# Altium schematic symbol library IC_STMicroelectronics_STM8S105C6T6_eec.SchLib: 1 symbol
Pins are listed as number, name and electrical type; pins without a type are passive.

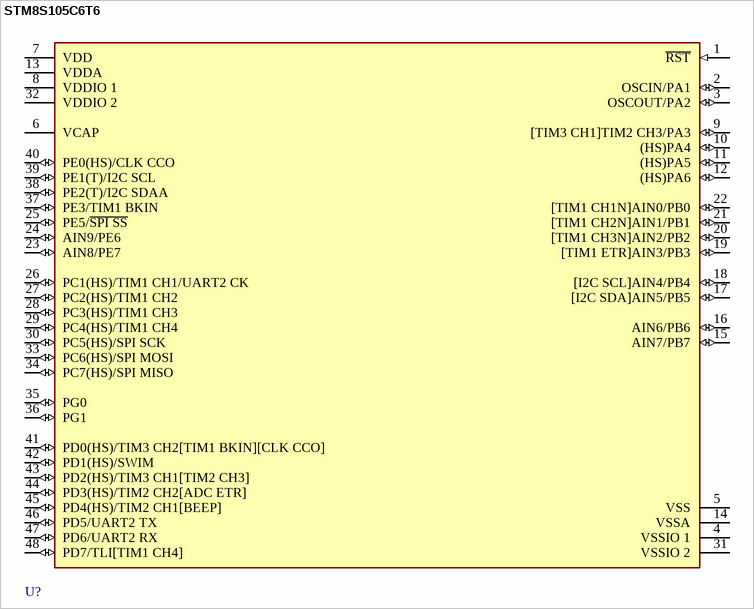
[diagram p0: symbol STM8S105C6T6]

## STM8S105C6T6
designator U?  (value not drawn)
pins: 1 ~{RST} (in), 2 OSCIN/PA1 (io), 3 OSCOUT/PA2 (io), 4 VSSIO 1 (power), 5 VSS (power), 6 VCAP (power), 7 VDD (power), 8 VDDIO 1 (power), 9 [TIM3 CH1]TIM2 CH3/PA3 (io), 10 (HS)PA4 (io), 11 (HS)PA5 (io), 12 (HS)PA6 (io), 13 VDDA (power), 14 VSSA (power), 15 AIN7/PB7 (io), 16 AIN6/PB6 (io), 17 [I2C SDA]AIN5/PB5 (io), 18 [I2C SCL]AIN4/PB4 (io), 19 [TIM1 ETR]AIN3/PB3 (io), 20 [TIM1 CH3N]AIN2/PB2 (io), 21 [TIM1 CH2N]AIN1/PB1 (io), 22 [TIM1 CH1N]AIN0/PB0 (io), 23 AIN8/PE7 (io), 24 AIN9/PE6 (io), 25 PE5/~{SPI SS} (io), 26 PC1(HS)/TIM1 CH1/UART2 CK (io), 27 PC2(HS)/TIM1 CH2 (io), 28 PC3(HS)/TIM1 CH3 (io), 29 PC4(HS)/TIM1 CH4 (io), 30 PC5(HS)/SPI SCK (io), 31 VSSIO 2 (power), 32 VDDIO 2 (power), 33 PC6(HS)/SPI MOSI (io), 34 PC7(HS)/SPI MISO (io), 35 PG0 (io), 36 PG1 (io), 37 PE3/TIM1 BKIN (io), 38 PE2(T)/I2C SDAA (io), 39 PE1(T)/I2C SCL (io), 40 PE0(HS)/CLK CCO (io), 41 PD0(HS)/TIM3 CH2[TIM1 BKIN][CLK CCO] (io), 42 PD1(HS)/SWIM (io), 43 PD2(HS)/TIM3 CH1[TIM2 CH3] (io), 44 PD3(HS)/TIM2 CH2[ADC ETR] (io), 45 PD4(HS)/TIM2 CH1[BEEP] (io), 46 PD5/UART2 TX (io), 47 PD6/UART2 RX (io), 48 PD7/TLI[TIM1 CH4] (io)